# Altium footprint library Molex_0705430037.PcbLib: 1 footprints
Each footprint in its own frame and in the unit in brackets; x right, y up, seen from the top. Pads: shape width x height; smd on the part's side, far side on the other; paste and mask are expansions set on the pad; w line width, h text height; cw(c..) or ccw(c..) is an arc to the next point about the centre after c.
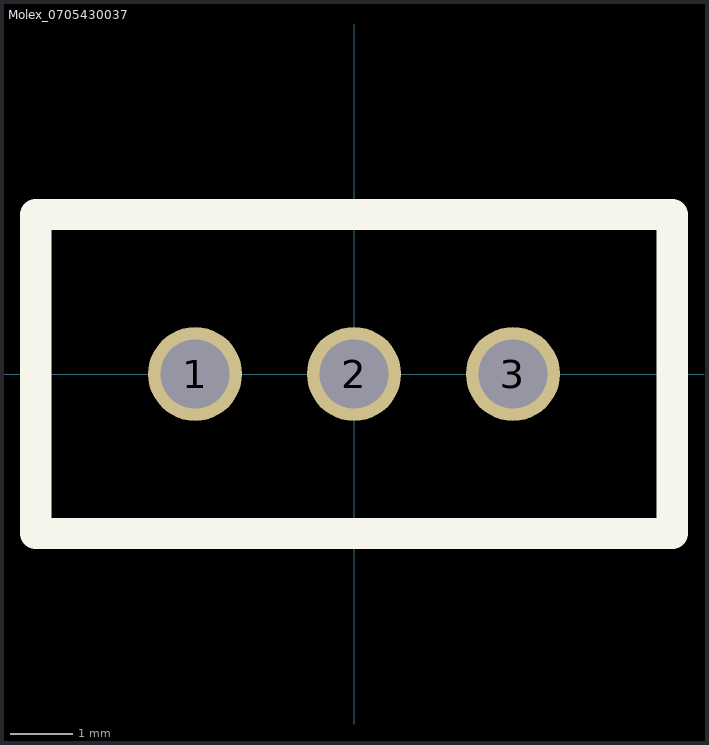
[diagram p0: the footprint, top view; thin cyan lines are the x and y axes]

## Molex_0705430037 [mm]
pads (3):
  round 1.5 hole 1.1: 1(-2.54,0) 2(0,0) 3(2.54,0)
Top Overlay:
  lines w0.5: 5.08,-2.55 -5.085,-2.55 -5.085,2.55 5.08,2.55 ; 5.085,-2.55 5.085,2.55